# Altium schematic symbol library mylib.SchLib: 4 symbols
Pins are listed as number, name and electrical type; pins without a type are passive.

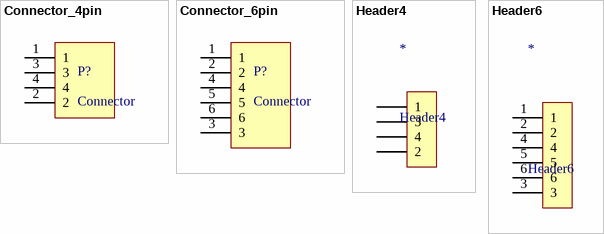
[diagram p0: symbols Connector_4pin to Header6]

## Connector_4pin
designator P?, comment Connector
4pin Connector
footprint FP_CONN4_TAP_254MM_90 (fekvő két pólusú tápcsatlakozó 2.54mm)
footprint FP_CONN4_TAP_254MM (álló két pólusú tápcsatlakozó 2.54mm)
footprint FP_CONN4_2MM_90 (fekvő 6 pólusú csatlakozó 2mm)
footprint FP_CONN4_2MM_180 (álló 4 pólusú csatlakozó 2mm)
pins: 1, 2, 3, 4

## Connector_6pin
designator P?, comment Connector
6pin connector
footprint FP_CONN6_TAP_254MM_90 (fekvő hat pólusú tápcsatlakozó 2.54mm)
footprint FP_CONN6_TAP_254MM (álló hat pólusú tápcsatlakozó 2.54mm)
footprint FP_CONN6_2MM_90 (fekvő 6 pólusú csatlakozó 2mm)
footprint FP_CONN6_2MM_180 (álló 6 pólusú csatlakozó 2mm)
pins: 1, 2, 3, 4, 5, 6

## Header4
designator *
footprint FP_CONN4_TUSKE_254MM (4×1 tüskesor)
pins: 1, 2, 3, 4

## Header6
designator *
footprint HEADER6
footprint HEADER6x1
footprint HEADER6b (Connector; IDC, Straight Press-in Pin, Thru-Hole; 10 Position; Vertical; Pitch 2.54 mm; Body 20.32 x 9.2 x 9.45 mm (LxWxH))
pins: 1, 2, 3, 4, 5, 6